# Altium footprint library Test point FP.PcbLib: 2 footprints
Each footprint in its own frame and in the unit in brackets; x right, y up, seen from the top. Pads: shape width x height; smd on the part's side, far side on the other; paste and mask are expansions set on the pad; w line width, h text height; cw(c..) or ccw(c..) is an arc to the next point about the centre after c.
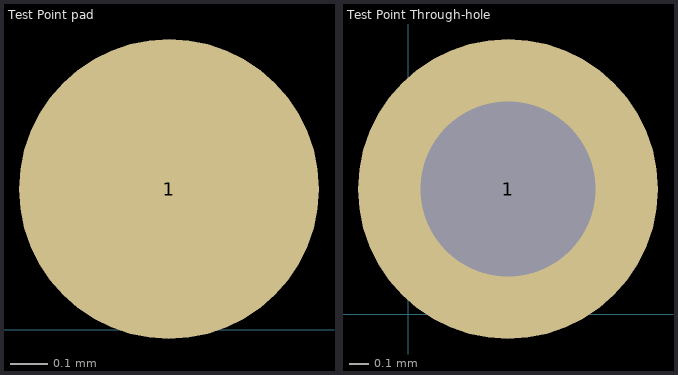
[diagram p0: the footprints below, top view; thin cyan lines are the x and y axes]

## Test Point pad [mil]
pads (1):
  round 32 smd: 1(20,15)

## Test Point Through-hole [mil]
pads (1):
  round 60 hole 35: 1(20,25)